# Altium footprint library 4.PcbLib: 4 footprints
Each footprint in its own frame and in the unit in brackets; x right, y up, seen from the top. Pads: shape width x height; smd on the part's side, far side on the other; paste and mask are expansions set on the pad; w line width, h text height; cw(c..) or ccw(c..) is an arc to the next point about the centre after c.
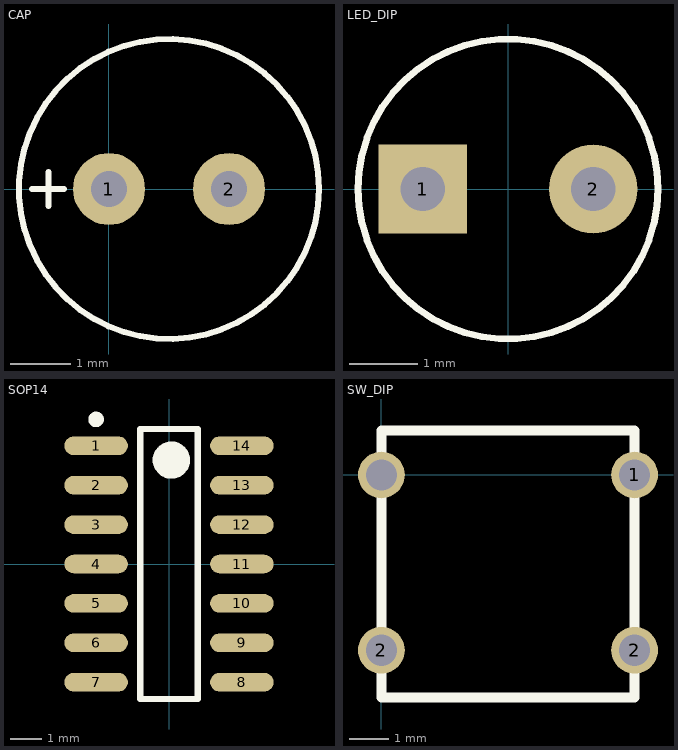
[diagram p0: the footprints below, top view; thin cyan lines are the x and y axes]

## CAP [mm]
height 11
pads (2):
  round 1.2 hole 0.6: 1(0,0) 2(2,0)
Top Overlay:
  circle w0.1: c1,0 r2.5
  lines w0.1: -1.286,0 -0.753,0 ; -1.007,-0.279 -1.007,0 -1.007,0.279

## LED_DIP [mm]
pads (2):
  rect 1.3x1.3 hole 0.65: 1(-1.25,0)
  round 1.3 hole 0.65: 2(1.25,0)
Top Overlay:
  circle w0.1: c0,0 r2.2

## SOP14 [mm]
height 1.73
pads (14):
  oval 2.05x0.6 smd: 1(-2.35,3.81) 2(-2.35,2.54) 3(-2.35,1.27) 4(-2.35,0) 5(-2.35,-1.27) 6(-2.35,-2.54) 7(-2.35,-3.81) 8(2.35,-3.81) 9(2.35,-2.54) 10(2.35,-1.27) 11(2.35,0) 12(2.35,1.27) 13(2.35,2.54) 14(2.35,3.81)
Top Overlay:
  circle w0.6: c0.075,3.35 r0.3
  circle w0.25: c-2.35,4.66 r0.125
  lines w0.2: -0.925,-4.35 0.925,-4.35 0.925,4.35 -0.925,4.35 -0.925,-4.35

## SW_DIP [mm]
pads (4):
  round 1.2 hole 0.8: 1(6.5,0) 2(0,-4.5) 2(6.5,-4.5) ""(0,0)
Top Overlay:
  lines w0.254: 0,-5.715 6.5,-5.715 6.5,1.143 0,1.143 0,-5.715